# Altium schematic symbol library LED.SchLib: 12 symbols
Pins are listed as number, name and electrical type; pins without a type are passive.

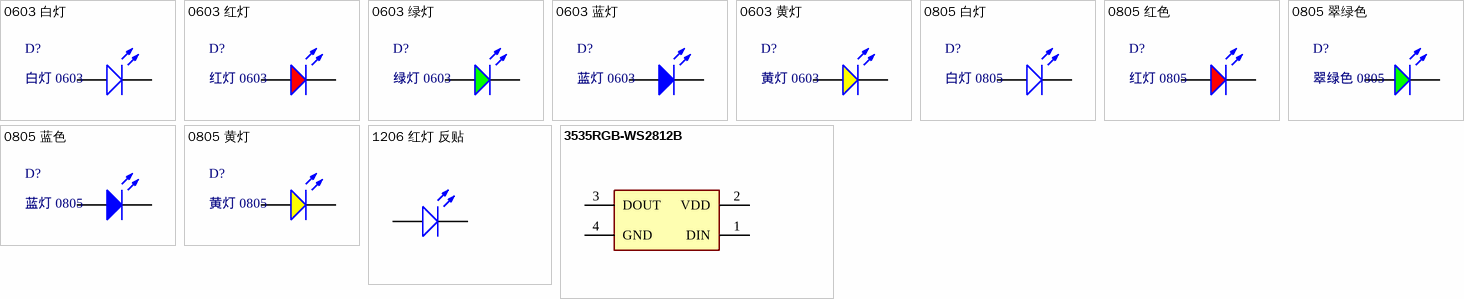
[diagram p0: symbols 0603 白灯 to 3535RGB-WS2812B]

## 0603 白灯
designator D?, comment 白灯 0603
发光二极管; ComponentLink1Description: 供应商链接; ComponentLink1URL: http://www.szlcsc.com/product/details_2663.html; SuppliersPartNumber: C2290
footprint 0603_LED
pins: A, K
1 alternate drawing of the same symbol

## 0603 红灯
designator D?, comment 红灯 0603
发光二极管; 插件/贴片: *
footprint 0603_LED
pins: A, K

## 0603 绿灯
designator D?, comment 绿灯 0603
发光二极管; 厂家型号: LC; ComponentLink1Description: 供应商链接; ComponentLink1URL: http://www.szlcsc.com/product/details_73152.html; SuppliersPartNumber: C72043
footprint 0603_LED
pins: A, K

## 0603 蓝灯
designator D?, comment 蓝灯 0603
发光二极管; 厂家型号: LC; ComponentLink1Description: 供应商链接; ComponentLink1URL: http://www.szlcsc.com/product/details_73150.html; SuppliersPartNumber: C72041
footprint 0603_LED
pins: A, K

## 0603 黄灯
designator D?, comment 黄灯 0603
发光二极管; ComponentLink1Description: 供应商链接; ComponentLink1URL: http://www.szlcsc.com/product/details_73147.html; SuppliersPartNumber: C72038
footprint 0603_LED
pins: A, K

## 0805 白灯
designator D?, comment 白灯 0805
发光二极管; 厂家: 0805; ComponentLink1Description: 供应商链接; ComponentLink1URL: http://www.szlcsc.com/product/details_35468.html; SuppliersPartNumber: C34499
footprint 0805_LED
pins: A, K

## 0805 红色
designator D?, comment 红灯 0805
发光二极管; 金蝶料号: 010116010008; 插件/贴片: 贴片; ComponentLink1Description: 供应商链接; ComponentLink1URL: http://www.szlcsc.com/product/details_2668.html
footprint 0805_LED
pins: A, K

## 0805 翠绿色
designator D?, comment 翠绿色 0805
发光二极管; 厂家: 0805; 金蝶料号: 010116010009; 插件/贴片: 贴片; 工作温度: *
footprint 0805_LED
pins: A, K

## 0805 蓝色
designator D?, comment 蓝灯 0805
发光二极管; 金蝶料号: 010116010007; 插件/贴片: 贴片; ComponentLink1Description: 供应商链接; ComponentLink1URL: http://www.szlcsc.com/product/details_2666.html
footprint 0805_LED
pins: A, K

## 0805 黄灯
designator D?, comment 黄灯 0805
发光二极管; 厂家型号: *
footprint 0805_LED
pins: A, K

## 1206 红灯 反贴
designator LED?
反贴发光二极管 3.2 × 1.6 × 0.8 mm; 金蝶料号: 010116010013; 插件/贴片: 贴片; 器件状态: 在用; 值: 1206 红灯 反贴
footprint 1206_LED-反贴 (1206LED            反贴)
pins: A, K

## 3535RGB-WS2812B
designator LED?
3535RGB WS2812B; 厂家: XINGLIGHT; 厂家型号: XL-3535RGBC-WS2812B; 金蝶料号: 010116010011; 工作温度: -40~85℃; 插件/贴片: 贴片; 器件状态: 在用; 值: 3535RGB
footprint 3535RGB-WS2812B-XL
pins: 1 DIN, 2 VDD, 3 DOUT, 4 GND